# Altium footprint library TE_ARC_HEADER_2.PcbLib: 1 footprints
Each footprint in its own frame and in the unit in brackets; x right, y up, seen from the top. Pads: shape width x height; smd on the part's side, far side on the other; paste and mask are expansions set on the pad; w line width, h text height; cw(c..) or ccw(c..) is an arc to the next point about the centre after c.
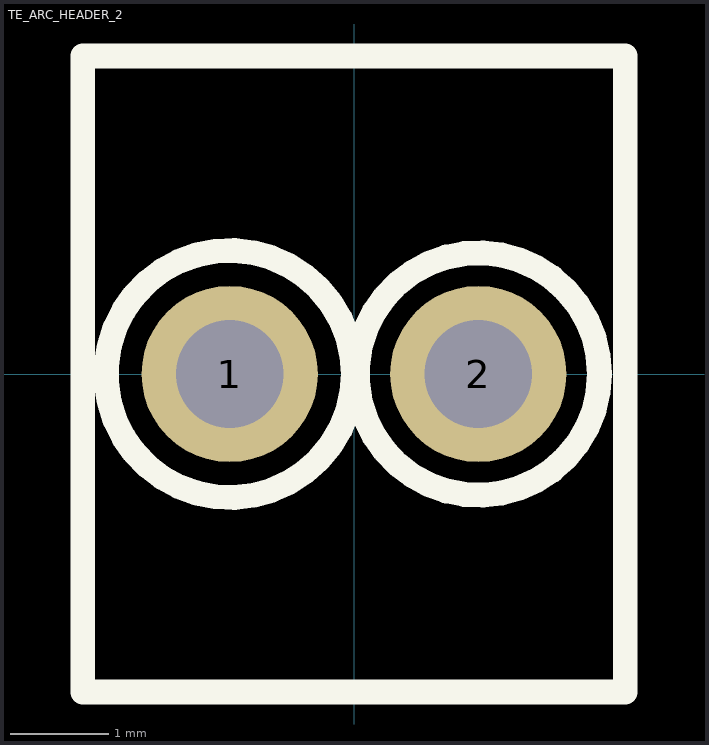
[diagram p0: the footprint, top view; thin cyan lines are the x and y axes]

## TE_ARC_HEADER_2 [mm]
pads (2):
  round 1.8 hole 1.1: 1(-1.27,0) 2(1.27,0)
Top Overlay:
  circle w0.254: c1.27,0 r1.238
  circle w0.254: c-1.27,0 r1.262
  lines w0.254: -2.77,-3.25 2.77,-3.25 2.77,3.25 -2.77,3.25 -2.77,-3.25